# Altium schematic symbol library ADI-AD7843-RQ-16.SchLib: 1 symbol
Pins are listed as number, name and electrical type; pins without a type are passive.

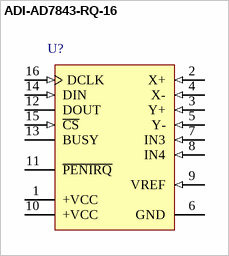
[diagram p0: symbol ADI-AD7843-RQ-16]

## ADI-AD7843-RQ-16
designator U?
footprint RQ-16_N (SOP, 16-Leads, Body 4.9x3.9mm, Pitch 0.635mm, IPC Medium Density)
pins: 1 +VCC (power) "Power Supply Input. The +VCC range for the AD7843 is from 2.2 V to 5.25 V. Both +VCC pins should be connected directly together.", 2 X+ (in) "X+ Position Input. ADC Input Channel 1.", 3 Y+ (in) "Y+ Position Input. ADC Input Channel 2.", 4 X- (in) "X- Position Input.", 5 Y- (in) "Y- Position Input.", 6 GND (power) "Analog Ground. Ground reference point for all circuitry on the AD7843. All analog input signals and any external reference signal should be referred to this GND voltage.", 7 IN3 (in) "Auxiliary Input 1. ADC Input Channel 3.", 8 IN4 (in) "Auxiliary Input 2. ADC Input Channel 4.", 9 VREF (in) "Reference Input for the AD7843. An external reference must be applied to this input. The voltage range for the external reference is 1.0 V to +VCC. For specified performance, it is 2.5 V.", 10 +VCC (power) "Power Supply Input. The +VCC range for the AD7843 is from 2.2 V to 5.25 V. Both +VCC pins should be connected directly together.", 11 ~{PENIRQ} (oc) "Pen Interrupt. CMOS logic open-drain output (requires 10 kohm to 100 kohm pull-up register externally).", 12 DOUT (hiz) "Data Out. Logic Output. The conversion result from the AD7843 is provided on this output as a serial data stream.The bits are clocked out on the falling edge of the DCLK input. This output is high impedance when C\S\ is high.", 13 BUSY (hiz) "BUSY Output. Logic Output. This output is high impedance when C\S\ is high.", 14 DIN (in) "Data In. Logic input. Data to be written to the AD7843 control register is provided on this input and is clocked into the register on the rising edge of DCLK (see the Control Register section).", 15 ~{CS} (in) "Chip Select Input. Active Low Logic Input. This input provides the dual function of initiating conversions on the AD7843 and also enables the serial input/output register.", 16 DCLK (in) "External Clock Input. Logic Input. DCLK provides the serial clock for accessing data from the part. This clock input is also used as the clock source for the AD7843 conversion process."